# EAGLE library part CON05X2 (library Stecker_Pins)
Pin-Leiste, 5*2
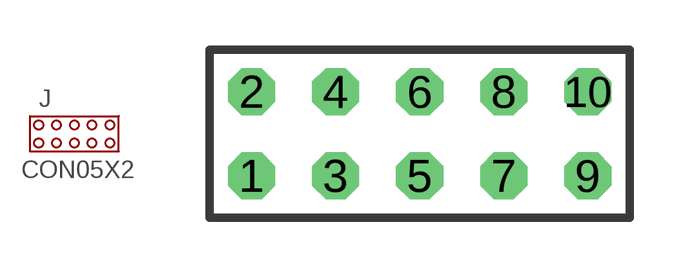
[diagram p3: symbol with the pads of CON05X2; footprint CON05X2]

Designator prefix J

## CON05X2  [CON05X2]
1  1  in
2  2  in
3  3  in
4  4  in
5  5  in
6  6  in
7  7  in
8  8  in
9  9  in
10  10  in

## Footprint CON05X2 (pad centres in mm)
drill 0.8 pad 1.422 octagon: 1 0,0; 2 0,2.54; 3 2.54,0; 4 2.54,2.54; 5 5.08,0; 6 5.08,2.54; 7 7.62,0; 8 7.62,2.54; 9 10.16,0; 10 10.16,2.54